# Altium footprint library SamacSys.PcbLib: 35 footprints (part 2 of 3)
Each footprint in its own frame and in the unit in brackets; x right, y up, seen from the top. Pads: shape width x height; smd on the part's side, far side on the other; paste and mask are expansions set on the pad; w line width, h text height; cw(c..) or ccw(c..) is an arc to the next point about the centre after c.
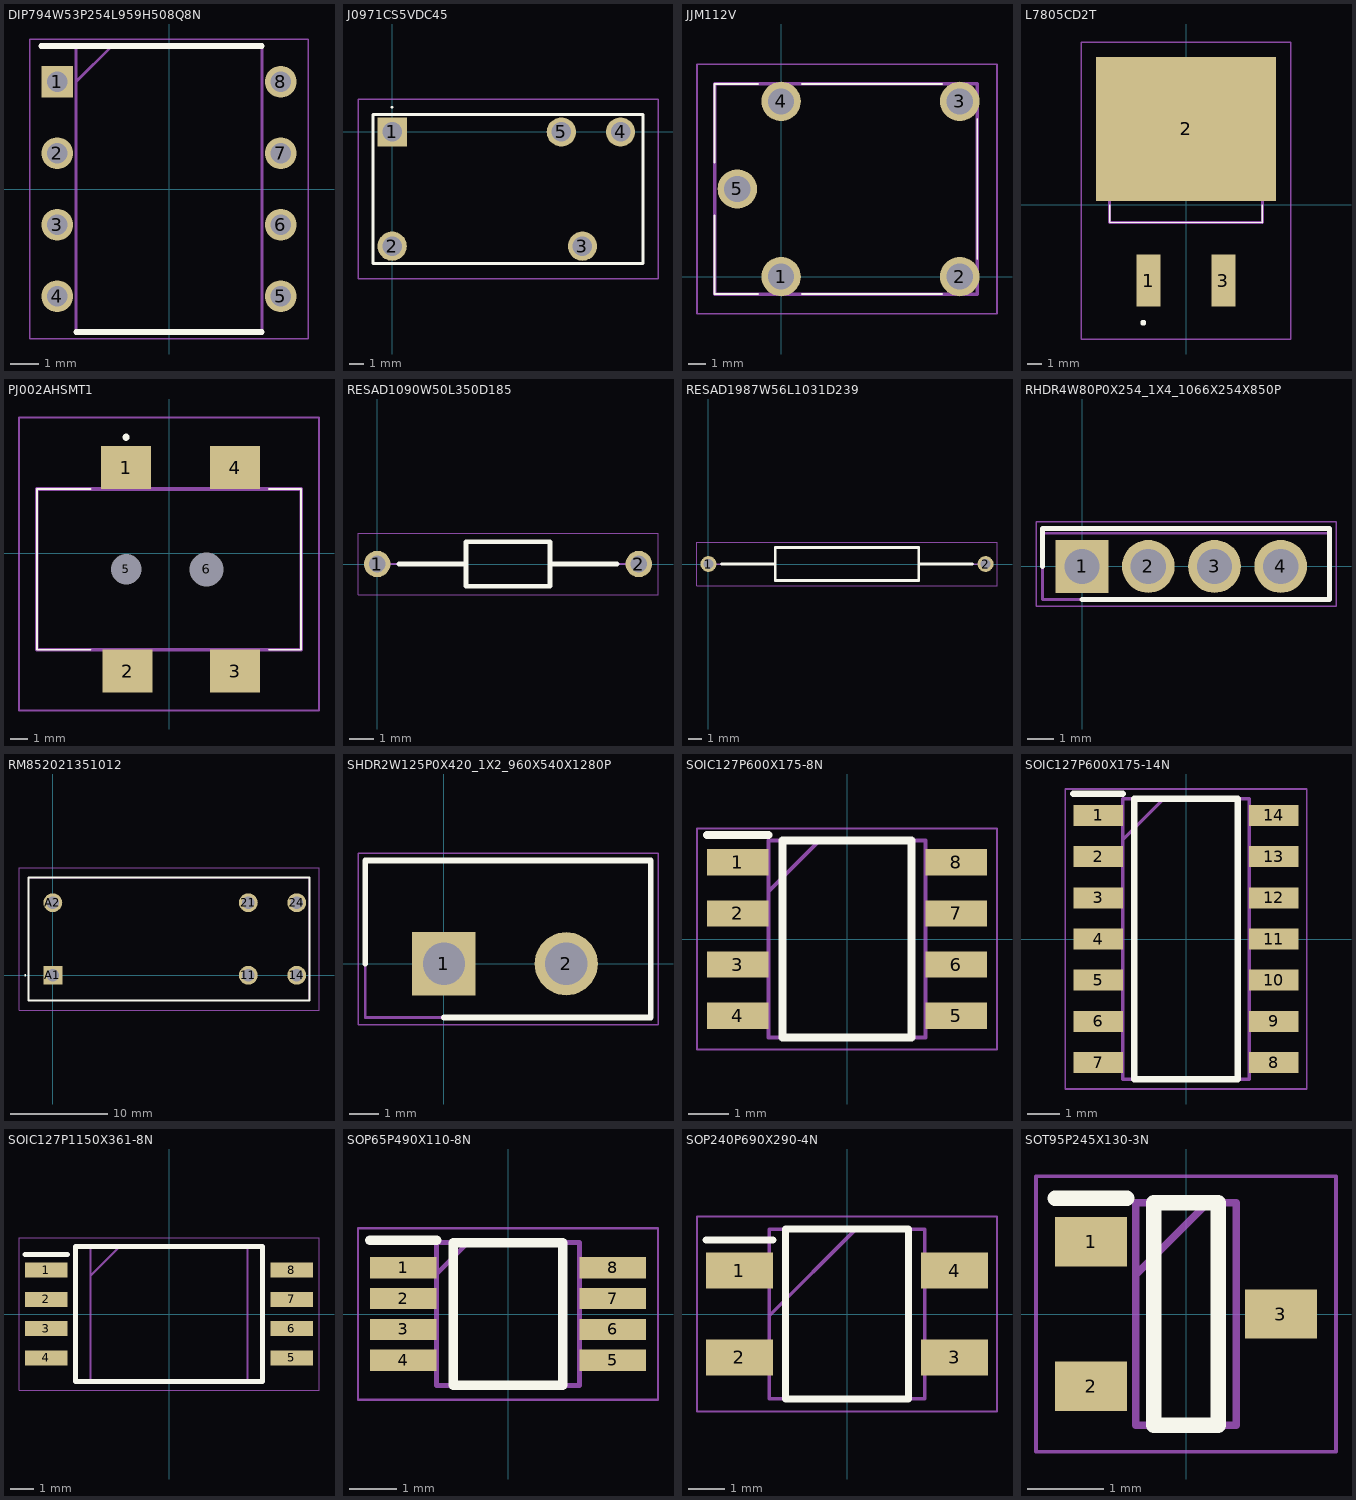
[diagram p1: the footprints below, top view; thin cyan lines are the x and y axes]

## DIP794W53P254L959H508Q8N [mm]
pads (8):
  rect 1.13x1.13 hole 0.73: 1(-3.97,3.81)
  round 1.13 hole 0.73: 2(-3.97,1.27) 3(-3.97,-1.27) 4(-3.97,-3.81) 5(3.97,-3.81) 6(3.97,-1.27) 7(3.97,1.27) 8(3.97,3.81)
Top Overlay:
  lines w0.2: -4.535,5.08 3.3,5.08 ; -3.3,-5.08 3.3,-5.08
Mechanical 13:
  lines w0.1: -3.3,3.81 -2.03,5.08 ; -3.3,-5.08 -3.3,5.08 3.3,5.08 3.3,-5.08 -3.3,-5.08
Mechanical 15:
  lines w0.05: -4.945,-5.33 -4.945,5.33 4.945,5.33 4.945,-5.33 -4.945,-5.33
3D body "LM555CN.stp": height 4.21, standoff -3.37, extent -4.102,-4.635 4.102,4.635

## J0971CS5VDC45 [mm]
pads (5):
  rect 1.95x1.95 hole 1.3: 1(0,0)
  round 1.95 hole 1.3: 2(0,-7.62) 3(12.7,-7.62) 4(15.24,0) 5(11.29,0)
Top Overlay:
  lines w0.1: 0,1.6 cw(c0,1.65) 0,1.7 cw(c0,1.65) 0,1.6
  lines w0.2: -1.27,-8.78 -1.27,1.17 16.73,1.17 16.73,-8.78 -1.27,-8.78
Mechanical 13:
  lines w0.1: -1.28,-8.78 -1.28,1.17 16.74,1.17 16.74,-8.78 -1.28,-8.78
Mechanical 15:
  lines w0.1: -2.28,-9.78 -2.28,2.17 17.74,2.17 17.74,-9.78 -2.28,-9.78
3D body "J0971CS5VDC.45.stp": height 15.4, standoff -5, extent -1.28,-8.78 16.74,1.17

## JJM112V [mm]
pads (5):
  round 2.25 hole 1.5: 1(0,0) 2(10.2,0) 3(10.2,10) 4(0,10) 5(-2.5,5)
Top Overlay:
  lines w0.1: -3.8,3.5 -3.8,-1 -1.3,-1 ; -3.8,6.5 -3.8,11 -1.3,11 ; 1.2,-1 9.2,-1 ; 1.2,11 9.2,11 ; 11.2,1 11.2,9
Mechanical 13:
  lines w0.2: -3.8,-1 -3.8,11 11.2,11 11.2,-1 -3.8,-1
Mechanical 15:
  lines w0.1: -4.8,-2.125 -4.8,12.125 12.325,12.125 12.325,-2.125 -4.8,-2.125
3D body "JJM1-12V.stp": height 12.82, standoff -4.58, extent -3.99,-1 11.51,11

## L7805CD2T [mm]
pads (3):
  rect 1.6x3.5 smd: 1(-2.54,-5.138) 3(2.54,-5.138)
  rect 12.2x9.75 smd: 2(0,5.138)
Top Overlay:
  lines w0.1: -5.175,0 -5.175,-1.2 5.175,-1.208 5.175,0
  lines w0.2: -3,-8 cw(c-2.9,-8) -2.8,-8 cw(c-2.9,-8) -3,-8
Mechanical 13:
  lines w0.2: -5.175,-1.208 -5.175,3.192 5.175,3.192 5.175,-1.208 -5.175,-1.208
Mechanical 15:
  lines w0.1: -7.1,-9.1 -7.1,11.012 7.1,11.012 7.1,-9.1 -7.1,-9.1
3D body "L7805CD2T-TR.stp": height 4.73, standoff 0, extent -5.214,-13.915 5.214,15.835

## PJ002AHSMT1 [mm]
pads (6):
  rect 2.8x2.4 smd: 1(-2.4,4.8) 2(-2.32,-6.6) 3(3.7,-6.6) 4(3.7,4.8)
  round 0.85 hole 1.7 unplated: 5(-2.4,-0.9)
  round 0.95 hole 1.9 unplated: 6(2.1,-0.9)
Top Overlay:
  lines w0.1: -4.4,-5.4 -7.4,-5.4 -7.4,3.6 -4.4,3.6 ; 5.6,-5.4 7.4,-5.4 7.4,3.6 5.6,3.6
  lines w0.2: -2.5,6.5 ccw(c-2.4,6.5) -2.3,6.5 ccw(c-2.4,6.5) -2.5,6.5
Mechanical 13:
  lines w0.2: -7.4,-5.4 -7.4,3.6 7.4,3.6 7.4,-5.4 -7.4,-5.4
Mechanical 15:
  lines w0.1: -8.4,-8.8 -8.4,7.6 8.4,7.6 8.4,-8.8 -8.4,-8.8
3D body "PJ-002AH-SMT-1.stp": height 11.21, standoff -0.99, extent -7.4,-7.31 7.4,5.29

## RESAD1090W50L350D185 [mm]
pads (2):
  round 1.1 hole 0.7: 1(0,0) 2(10.9,0)
Top Overlay:
  lines w0.2: 0.9,0 3.7,0 ; 7.2,0 10,0 ; 3.7,-0.925 3.7,0.925 7.2,0.925 7.2,-0.925 3.7,-0.925
Mechanical 13:
  lines w0.1: 0,0 3.7,0 ; 7.2,0 10.9,0 ; 3.7,-0.925 3.7,0.925 7.2,0.925 7.2,-0.925 3.7,-0.925
Mechanical 15:
  lines w0.05: -0.8,-1.275 -0.8,1.275 11.7,1.275 11.7,-1.275 -0.8,-1.275
3D body "2-1623927-3.stp": height 0.93, standoff 0.93, extent 5.45,0 5.45,0

## RESAD1987W56L1031D239 [mm]
pads (2):
  round 1.15 hole 0.75: 1(0,0) 2(19.9,0)
Top Overlay:
  lines w0.2: 0.925,0 4.795,0 ; 15.105,0 18.975,0 ; 4.795,-1.195 4.795,1.195 15.105,1.195 15.105,-1.195 4.795,-1.195
Mechanical 13:
  lines w0.1: 0,0 4.795,0 ; 15.105,0 19.9,0 ; 4.795,-1.195 4.795,1.195 15.105,1.195 15.105,-1.195 4.795,-1.195
Mechanical 15:
  lines w0.05: -0.825,-1.545 -0.825,1.545 20.725,1.545 20.725,-1.545 -0.825,-1.545
3D body "RS01A1R000FE12.stp": height 3.18, standoff -3.18, extent -0.279,-1.577 20.15,1.577

## RHDR4W80P0X254_1X4_1066X254X850P [mm]
pads (4):
  rect 2.025x2.025 hole 1.35: 1(0,0)
  round 2.025 hole 1.35: 2(2.54,0) 3(5.08,0) 4(7.62,0)
Top Overlay:
  lines w0.2: -1.52,0 -1.52,1.455 9.49,1.455 9.49,-1.27 0,-1.27
Mechanical 13:
  lines w0.1: -1.52,-1.27 9.49,-1.27 9.49,1.27 -1.52,1.27 -1.52,-1.27
Mechanical 15:
  lines w0.05: -1.77,-1.52 9.74,-1.52 9.74,1.705 -1.77,1.705 -1.77,-1.52
3D body "PPTC041LFBN-RC.stp": height 8.5, standoff -3.5, extent -1.52,-1.27 9.14,1.27

## RM852021351012 [mm]
pads (6):
  round 1.95 hole 1.3: 11(20.2,0) 14(25.2,0) 21(20.2,7.5) 24(25.2,7.5) A2(0,7.5)
  rect 1.95x1.95 hole 1.3: A1(0,0)
Top Overlay:
  lines w0.1: -2.9,0 cw(c-2.85,0) -2.8,0 cw(c-2.85,0) -2.9,0
  lines w0.2: -2.5,-2.6 26.5,-2.6 26.5,10.1 -2.5,10.1 -2.5,-2.6
Mechanical 13:
  lines w0.1: -2.5,-2.6 26.5,-2.6 26.5,10.1 -2.5,10.1 -2.5,-2.6
Mechanical 15:
  lines w0.1: -3.5,-3.6 27.5,-3.6 27.5,11.1 -3.5,11.1 -3.5,-3.6
3D body "RM85-2021-35-1012.stp": height 15.8, standoff -5, extent -2.5,-2.6 26.5,10.1

## SHDR2W125P0X420_1X2_960X540X1280P [mm]
pads (2):
  rect 2.175x2.175 hole 1.45: 1(0,0)
  round 2.175 hole 1.45: 2(4.2,0)
Top Overlay:
  lines w0.2: -2.7,0 -2.7,3.55 7.1,3.55 7.1,-1.85 0,-1.85
Mechanical 13:
  lines w0.1: -2.7,-1.85 7.1,-1.85 7.1,3.55 -2.7,3.55 -2.7,-1.85
Mechanical 15:
  lines w0.05: -2.95,-2.1 7.35,-2.1 7.35,3.8 -2.95,3.8 -2.95,-2.1
3D body "64900211122.stp": height 12.8, standoff -3.8, extent -2.7,-2.7 6.9,2.7

## SOIC127P600X175-8N [mm]
pads (8):
  rect 1.525x0.65 smd: 1(-2.712,1.905) 2(-2.712,0.635) 3(-2.712,-0.635) 4(-2.712,-1.905) 5(2.712,-1.905) 6(2.712,-0.635) 7(2.712,0.635) 8(2.712,1.905)
Top Overlay:
  lines w0.2: -3.475,2.58 -1.95,2.58 ; -1.6,-2.45 1.6,-2.45 1.6,2.45 -1.6,2.45 -1.6,-2.45
Mechanical 13:
  lines w0.1: -1.95,1.18 -0.68,2.45 ; -1.95,-2.45 1.95,-2.45 1.95,2.45 -1.95,2.45 -1.95,-2.45
Mechanical 15:
  lines w0.05: -3.725,-2.75 3.725,-2.75 3.725,2.75 -3.725,2.75 -3.725,-2.75
3D body "NE555DR.stp": height 1.75, standoff 0, extent -3,-2.45 3,2.45

## SOIC127P600X175-14N [mm]
pads (14):
  rect 1.525x0.65 smd: 1(-2.712,3.81) 2(-2.712,2.54) 3(-2.712,1.27) 4(-2.712,0) 5(-2.712,-1.27) 6(-2.712,-2.54) 7(-2.712,-3.81) 8(2.712,-3.81) 9(2.712,-2.54) 10(2.712,-1.27) 11(2.712,0) 12(2.712,1.27) 13(2.712,2.54) 14(2.712,3.81)
Top Overlay:
  lines w0.2: -3.475,4.485 -1.95,4.485 ; -1.6,-4.325 -1.6,4.325 1.6,4.325 1.6,-4.325 -1.6,-4.325
Mechanical 13:
  lines w0.1: -1.95,3.055 -0.68,4.325 ; -1.95,-4.325 -1.95,4.325 1.95,4.325 1.95,-4.325 -1.95,-4.325
Mechanical 15:
  lines w0.05: -3.725,-4.625 -3.725,4.625 3.725,4.625 3.725,-4.625 -3.725,-4.625
3D body "LM2901M.stp": height 1.75, standoff 0, extent -3.013,-4.315 3.013,4.335

## SOIC127P1150X361-8N [mm]
pads (8):
  rect 1.85x0.65 smd: 1(-5.325,1.905) 2(-5.325,0.635) 3(-5.325,-0.635) 4(-5.325,-1.905) 5(5.325,-1.905) 6(5.325,-0.635) 7(5.325,0.635) 8(5.325,1.905)
Top Overlay:
  lines w0.2: -6.25,2.58 -4.4,2.58 ; -4.05,-2.925 4.05,-2.925 4.05,2.925 -4.05,2.925 -4.05,-2.925
Mechanical 13:
  lines w0.1: -3.404,1.655 -2.134,2.925 ; -3.404,-2.925 3.404,-2.925 3.404,2.925 -3.404,2.925 -3.404,-2.925
Mechanical 15:
  lines w0.05: -6.5,-3.302 6.5,-3.302 6.5,3.302 -6.5,3.302 -6.5,-3.302
3D body "ACPL-K33T-560E.stp": height 3.61, standoff 0, extent -5.75,-2.925 5.75,2.925

## SOP65P490X110-8N [mm]
pads (8):
  rect 1.4x0.45 smd: 1(-2.2,0.975) 2(-2.2,0.325) 3(-2.2,-0.325) 4(-2.2,-0.975) 5(2.2,-0.975) 6(2.2,-0.325) 7(2.2,0.325) 8(2.2,0.975)
Top Overlay:
  lines w0.2: -2.9,1.55 -1.5,1.55 ; -1.15,-1.5 -1.15,1.5 1.15,1.5 1.15,-1.5 -1.15,-1.5
Mechanical 13:
  lines w0.1: -1.5,0.85 -0.85,1.5 ; -1.5,-1.5 -1.5,1.5 1.5,1.5 1.5,-1.5 -1.5,-1.5
Mechanical 15:
  lines w0.05: -3.15,-1.8 -3.15,1.8 3.15,1.8 3.15,-1.8 -3.15,-1.8
3D body "LM555CMM_NOPB.stp": height 1.1, standoff 0, extent -2.451,-1.499 2.451,1.499

## SOP240P690X290-4N [mm]
pads (4):
  rect 1.85x1 smd: 1(-2.975,1.2) 2(-2.975,-1.2) 3(2.975,-1.2) 4(2.975,1.2)
Top Overlay:
  lines w0.2: -3.9,2.05 -2.05,2.05 ; -1.7,-2.35 -1.7,2.35 1.7,2.35 1.7,-2.35 -1.7,-2.35
Mechanical 13:
  lines w0.1: -2.15,-0.05 0.25,2.35 ; -2.15,-2.35 -2.15,2.35 2.15,2.35 2.15,-2.35 -2.15,-2.35
Mechanical 15:
  lines w0.05: -4.15,-2.7 -4.15,2.7 4.15,2.7 4.15,-2.7 -4.15,-2.7
3D body "MBS10_RC.stp": height 2.9, standoff 0, extent -3.45,-2.35 3.45,2.35

## SOT95P245X130-3N [mm]
pads (3):
  rect 0.95x0.65 smd: 1(-1.25,0.95) 2(-1.25,-0.95) 3(1.25,0)
Top Overlay:
  lines w0.2: -1.725,1.525 -0.775,1.525 ; -0.425,-1.465 -0.425,1.465 0.425,1.465 0.425,-1.465 -0.425,-1.465
Mechanical 13:
  lines w0.1: -0.662,0.515 0.288,1.465 ; -0.662,-1.465 -0.662,1.465 0.662,1.465 0.662,-1.465 -0.662,-1.465
Mechanical 15:
  lines w0.05: -1.975,-1.815 -1.975,1.815 1.975,1.815 1.975,-1.815 -1.975,-1.815
3D body "KTN2907AS.stp": height 1.3, standoff 0, extent -1.225,-1.465 1.225,1.465